# Altium footprint library CONNECTOR.PCBLIB: 232 footprints (part 10 of 15)
Each footprint in its own frame and in the unit in brackets; x right, y up, seen from the top. Pads: shape width x height; smd on the part's side, far side on the other; paste and mask are expansions set on the pad; w line width, h text height; cw(c..) or ccw(c..) is an arc to the next point about the centre after c.
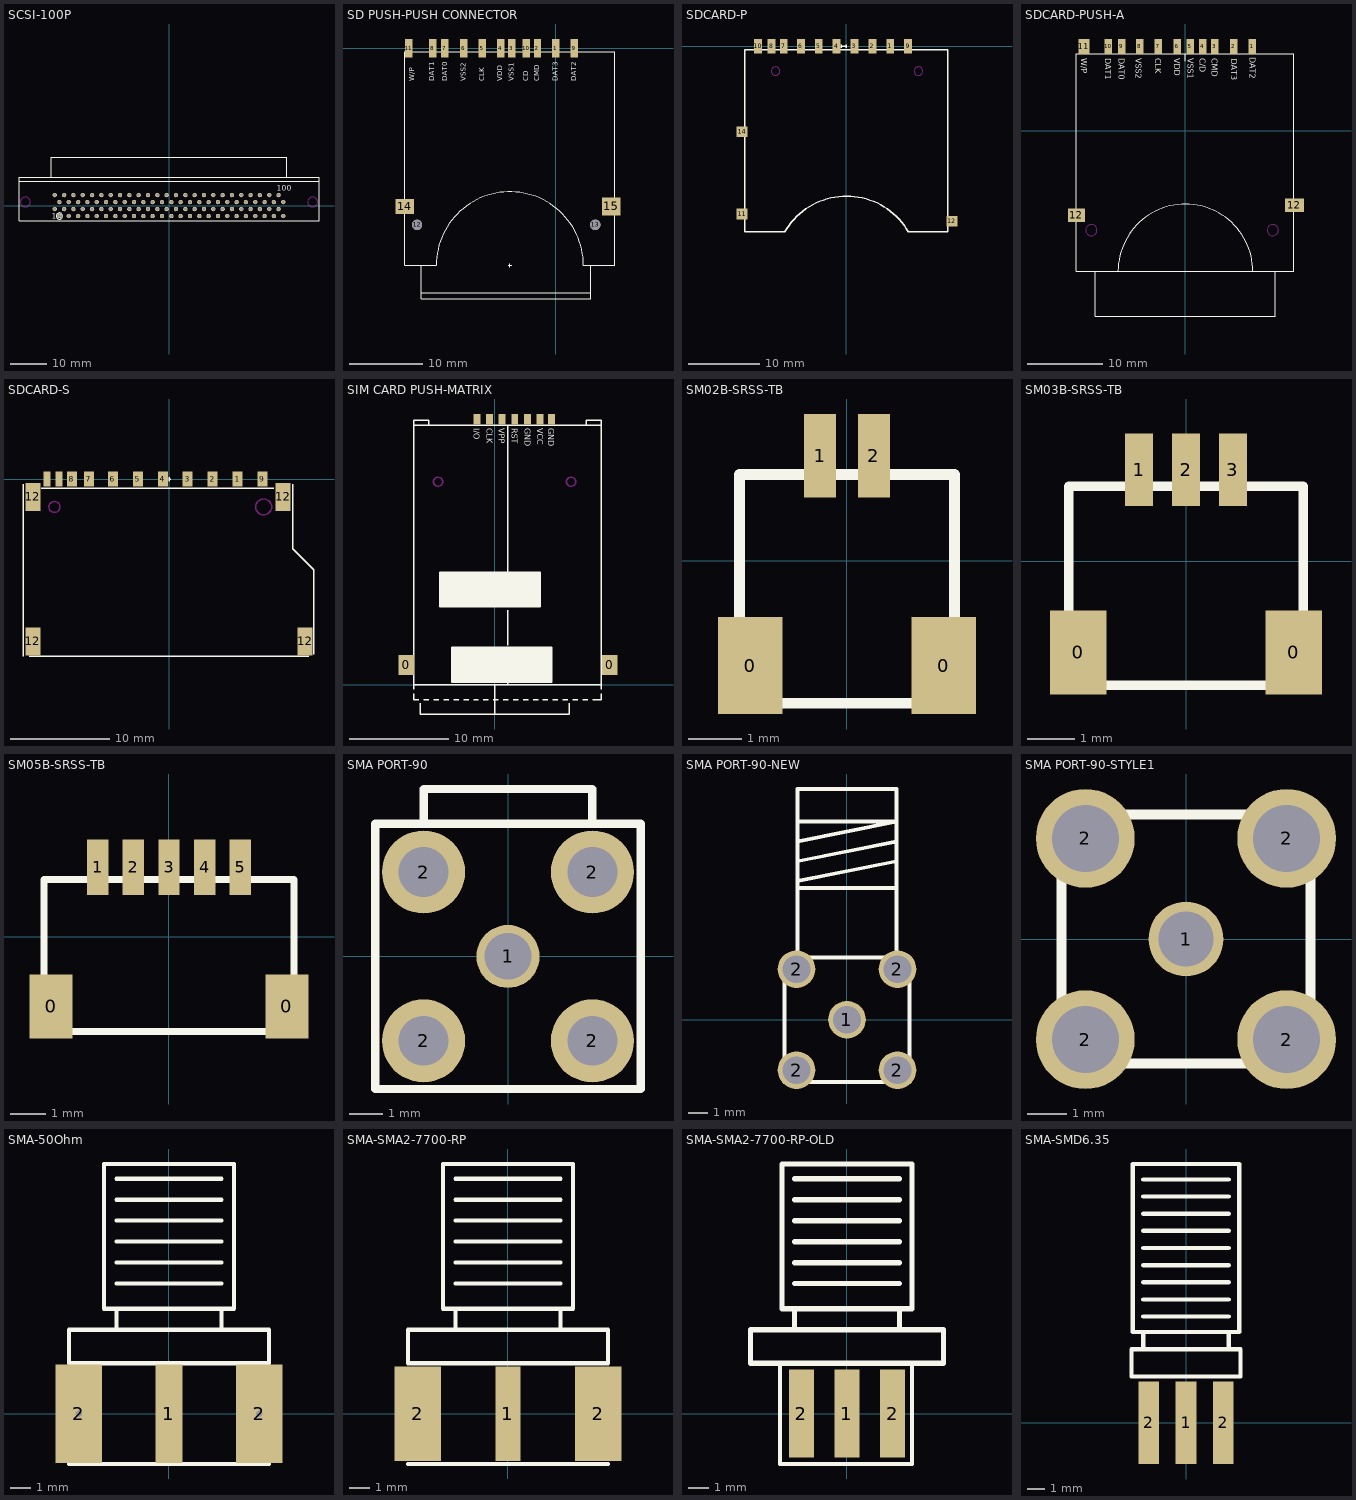
[diagram p9: the footprints below, top view; thin cyan lines are the x and y axes]

## SCSI-100P [mm]
pads (100):
  round 1.2 hole 0.8: 1(-29.845,-2.857) 2(-27.305,-2.857) 3(-24.765,-2.857) 4(-22.225,-2.857) 5(-19.685,-2.857) 6(-17.145,-2.857) 7(-14.605,-2.857) 8(-12.065,-2.857) 9(-9.525,-2.857) 10(-6.985,-2.857) 11(-4.445,-2.857) 12(-1.905,-2.857) 13(0.635,-2.857) 14(3.175,-2.857) 15(5.715,-2.857) 16(8.255,-2.857) 17(10.795,-2.857) 18(13.335,-2.857) 19(15.875,-2.857) 20(18.415,-2.857) 21(20.955,-2.857) 22(23.495,-2.857) 23(26.035,-2.857) 24(28.575,-2.857) 25(31.115,-2.857) 26(-31.115,-0.953) 27(-28.575,-0.953) 28(-26.035,-0.953) 29(-23.495,-0.953) 30(-20.955,-0.953) 31(-18.415,-0.953) 32(-15.875,-0.953) 33(-13.335,-0.953) 34(-10.795,-0.953) 35(-8.255,-0.953) 36(-5.715,-0.953) 37(-3.175,-0.953) 38(-0.635,-0.953) 39(1.905,-0.953) 40(4.445,-0.953) 41(6.985,-0.953) 42(9.525,-0.953) 43(12.065,-0.953) 44(14.605,-0.953) 45(17.145,-0.953) 46(19.685,-0.953) 47(22.225,-0.953) 48(24.765,-0.953) 49(27.305,-0.953) 50(29.845,-0.953) 51(-29.845,0.953) 52(-27.305,0.953) 53(-24.765,0.953) 54(-22.225,0.953) 55(-19.685,0.953) 56(-17.145,0.953) 57(-14.605,0.953) 58(-12.065,0.953) 59(-9.525,0.953) 60(-6.985,0.953) 61(-4.445,0.953) 62(-1.905,0.953) 63(0.635,0.953) 64(3.175,0.953) 65(5.715,0.953) 66(8.255,0.953) 67(10.795,0.953) 68(13.335,0.953) 69(15.875,0.953) 70(18.415,0.953) 71(20.955,0.953) 72(23.495,0.953) 73(26.035,0.953) 74(28.575,0.953) 75(31.115,0.953) 76(-31.115,2.857) 77(-28.575,2.857) 78(-26.035,2.857) 79(-23.495,2.857) 80(-20.955,2.857) 81(-18.415,2.857) 82(-15.875,2.857) 83(-13.335,2.857) 84(-10.795,2.857) 85(-8.255,2.857) 86(-5.715,2.857) 87(-3.175,2.857) 88(-0.635,2.857) 89(1.905,2.857) 90(4.445,2.857) 91(6.985,2.857) 92(9.525,2.857) 93(12.065,2.857) 94(14.605,2.857) 95(17.145,2.857) 96(19.685,2.857) 97(22.225,2.857) 98(24.765,2.857) 99(27.305,2.857) 100(29.845,2.857)
TopOverlay:
  circle w0.2: c-29.845,-2.857 r0.843
  lines w0.2: -32,7.658 -32,13.157 32,13.157 32,7.658 ; -40.85,6.658 -40.85,-4.143 40.85,-4.143 40.85,6.658 ; -40.85,6.658 -40.85,7.658 40.85,7.658 40.85,6.658 ; -40.85,6.658 40.85,6.658
  text "1" at -31.93,-3.6 h1.52
  text "100" at 29.4,4 h1.52
KeepOutLayer:
  circle w0.127: c39.115,0.953 r1.35
  circle w0.127: c-39.115,0.953 r1.35

## SD PUSH-PUSH CONNECTOR [mm]
pads (15):
  rect 1x2.5 smd: 1(0,0) 2(-2.5,0) 3(-6,0) 4(-7.5,0) 5(-10,0) 6(-12.5,0) 7(-15.1,0) 8(-16.7,0) 9(2.5,0) 10(-4,0) 11(-20,0)
  round 1.4 hole 1.4: 12(-18.85,-24) 13(5.35,-24)
  rect 2.5x2 smd: 14(-20.5,-21.5)
  rect 2.5x2.5 smd: 15(7.5,-21.5)
TopOverlay:
  lines w0.127: -18.25,-33.25 -4,-33.25 4.75,-33.25 ; -18.25,-29.5 -18.25,-34 4.75,-34 4.75,-29.5 ; -6.5,-29.5 -6,-29.5 ; -6.25,-29.75 -6.25,-29.5 -6.25,-29.25 ; -20.5,-29.5 -16.25,-29.5 cw(c-6.25,-29.5) 3.75,-29.5 8,-29.5 8,-0.5 -20.5,-0.5 -20.5,-29.5
  text "DAT2" at 2.75,-4.5 h0.7
  text "DAT3" at 0.25,-4.5 h0.7
  text "CMD" at -2.25,-4.5 h0.7
  text "CD" at -3.75,-4.5 h0.7
  text "VSS1" at -5.75,-4.5 h0.7
  text "VDD" at -7.25,-4.5 h0.7
  text "CLK" at -9.75,-4.5 h0.7
  text "VSS2" at -12.25,-4.5 h0.7
  text "DAT0" at -14.75,-4.5 h0.7
  text "DAT1" at -16.5,-4.5 h0.7
  text "W/P" at -19.25,-4.5 h0.7

## SDCARD-P [mm]
pads (13):
  rect 1.1x2 smd: 1(6.15,0) 2(3.65,0) 3(1.15,0) 4(-1.35,0) 5(-3.85,0) 6(-6.35,0) 7(-8.75,0) 8(-10.45,0) 9(8.65,0) 10(-12.35,0)
  rect 1.5x1.5 smd: 11(-14.6,-23.5) 12(14.8,-24.5) 14(-14.6,-12)
TopOverlay:
  lines w0.2: -0.7,-0.2 -0.7,0.2 ; -0.7,0 0,0 ; 0,-0.2 0,0.2 ; -14.2,-26 -8.621,-26 cw(c0.04,-31) 8.7,-26 14.2,-26 14.2,-0.5 -14.2,-0.5 -14.2,-26
KeepOutLayer:
  circle w0.127: c10.1,-3.5 r0.6
  circle w0.127: c-9.9,-3.5 r0.6

## SDCARD-PUSH-A [mm]
pads (13):
  rect 1x2 smd: 1(8.93,11.25) 2(6.43,11.25) 3(3.93,11.25) 4(2.28,11.25) 5(0.63,11.25) 6(-1.07,11.25) 7(-3.6,11.25) 8(-6.07,11.25) 9(-8.5,11.25) 10(-10.3,11.25)
  rect 1.5x2 smd: 11(-13.55,11.25)
  rect 2.3x1.8 smd: 12(-14.55,-11.25)
  rect 2.6x1.8 smd: 12(14.55,-9.95)
TopOverlay:
  lines w0.127: -12,-18.75 -12,-24.75 12,-24.75 12,-18.75 ; -9,-18.75 cw(c0,-18.775) 9,-18.75 ; 0,9.25 0,10.25 ; -14.55,-18.75 14.45,-18.75 14.45,10.25 -14.55,10.25 -14.55,-18.75
  text "W/P" at -13.9,9.7 h0.8
  text "DAT2" at 8.6,9.8 h0.8
  text "DAT3" at 6.1,9.6 h0.8
  text "CMD" at 3.5,9.7 h0.8
  text "C/D" at 1.9,9.7 h0.8
  text "VSS1" at 0.3,9.7 h0.8
  text "VDD" at -1.5,9.7 h0.8
  text "CLK" at -4,9.7 h0.8
  text "VSS2" at -6.6,9.7 h0.8
  text "DAT0" at -8.9,9.7 h0.8
  text "DAT1" at -10.7,9.7 h0.8
KeepOutLayer:
  circle w0.127: c11.65,-13.25 r0.75
  circle w0.127: c-12.55,-13.25 r0.75

## SDCARD-S [mm]
pads (15):
  rect 1x1.5 smd: 1(6.875,0) 2(4.375,0) 3(1.875,0) 4(-0.625,0) 5(-3.125,0) 6(-5.625,0) 7(-8.05,0) 8(-9.75,0) 9(9.375,0)
  rect 0.7x1.5 smd: 10(-11.05,0) 11(-12.25,0)
  rect 1.5x2.8 smd: 12(-13.65,-16.3) 12(-13.65,-1.8) 12(11.45,-1.8) 12(13.65,-16.3)
TopOverlay:
  lines w0.127: -14.6,-17.8 -14.6,-0.5 ; -14,-17.8 14,-17.8 ; -12.8,-0.9 10.5,-0.9 ; 0,-0.2 0,0.2 ; 0,0 0.2,0 ; 12.4,-0.5 12.4,-7 14.5,-9.1 14.5,-17.6
KeepOutLayer:
  circle w0.127: c9.5,-2.8 r0.8
  circle w0.127: c-11.5,-2.8 r0.55

## SIM CARD PUSH-MATRIX [mm]
pads (9):
  rect 1.6x2 smd: 0(-8.92,2) 0(11.58,2)
  rect 0.7x1.05 smd: 1(4.55,26.75) 2(2.01,26.75) 3(-0.53,26.75) 4(3.28,26.75) 5(0.74,26.75) 6(-1.8,26.75) 7(5.7,26.75)
TopOverlay:
  rectangle: -5.53,7.85 4.59,11.35
  rectangle: -4.36,0.25 5.76,3.75
  lines w0.127: -8.145,-0.9 -8.145,-1.5 -7.645,-1.5 ; -8.145,-0.45 -8.145,0 ; -7.5,-1.85 -7.5,-2.95 7.5,-2.95 7.5,-1.85 ; -7.145,-1.5 -6.645,-1.5 ; -6.645,26.15 -6.645,26.65 -8.145,26.65 -8.145,26.15 ; -6.145,-1.5 -5.645,-1.5 ; -5.145,-1.5 -4.645,-1.5 ; -4.145,-1.5 -3.645,-1.5 ; -3.145,-1.5 -2.645,-1.5 ; -2.145,-1.5 -1.645,-1.5 ; -1.145,-1.5 -0.645,-1.5 ; -0.145,-1.5 0.355,-1.5 ; 0,-2.95 0,0 ; 0.855,-1.5 1.355,-1.5 ; 1.28,0 1.28,0.5 ; 1.28,4 1.28,7.5 ; 1.28,11.4 1.28,25.6 1.28,26.15 ; 1.855,-1.5 2.355,-1.5 ; 2.855,-1.5 3.355,-1.5 ; 3.855,-1.5 4.355,-1.5 ; 4.855,-1.5 5.355,-1.5 ; 5.855,-1.5 6.355,-1.5 ; 6.855,-1.5 7.355,-1.5 ; 7.855,-1.5 8.355,-1.5 ; 8.855,-1.5 9.355,-1.5 ; 9.205,26.15 9.205,26.65 10.705,26.65 10.705,26.15 ; 9.855,-1.5 10.705,-1.5 10.705,-0.9 ; 10.705,-0.45 10.705,0 ; -8.145,0 -8.145,26.15 ; -8.145,0 10.705,0 ; -8.145,26.15 10.705,26.15 ; 10.705,0 10.705,26.15 ; -5.53,7.85 -5.53,11.35 4.59,11.35 4.59,7.85 -5.53,7.85 ; -4.36,0.25 5.76,0.25 5.76,3.75 -4.36,3.75 -4.36,0.25
  text "VCC" at 4.3,25.85 h0.6
  text "RST" at 1.7,25.85 h0.6
  text "CLK" at -0.8,25.85 h0.6
  text "GND" at 3,25.85 h0.6
  text "VPP" at 0.4,25.85 h0.6
  text "I/O" at -2.1,25.85 h0.6
  text "GND" at 5.4,25.85 h0.6
KeepOutLayer:
  circle w0.127: c-5.72,20.45 r0.46
  circle w0.127: c7.68,20.45 r0.46

## SM02B-SRSS-TB [mm]
pads (4):
  rect 1.2x1.8 smd: 0(-1.8,-1.95) 0(1.8,-1.95)
  rect 0.6x1.55 smd: 1(-0.5,1.95) 2(0.5,1.95)
TopOverlay:
  lines w0.2: -2,-2.65 -2,1.6 2,1.6 2,-2.65 -2,-2.65

## SM03B-SRSS-TB [mm]
pads (5):
  rect 1.2x1.8 smd: 0(-2.3,-1.95) 0(2.3,-1.95)
  rect 0.6x1.55 smd: 1(-1,1.95) 2(0,1.95) 3(1,1.95)
TopOverlay:
  lines w0.2: -2.5,-2.65 -2.5,1.6 2.5,1.6 2.5,-2.65 -2.5,-2.65

## SM05B-SRSS-TB [mm]
pads (7):
  rect 1.2x1.8 smd: 0(-3.3,-1.95) 0(3.3,-1.95)
  rect 0.6x1.55 smd: 1(-2,1.95) 2(-1,1.95) 3(0,1.95) 4(1,1.95) 5(2,1.95)
TopOverlay:
  lines w0.2: -3.5,-2.65 -3.5,1.6 3.5,1.6 3.5,-2.65 -3.5,-2.65

## SMA PORT-90 [mm]
pads (5):
  round 1.9 hole 1.4: 1(0,0)
  round 2.5 hole 1.5: 2(-2.54,-2.54) 2(-2.54,2.54) 2(2.54,-2.54) 2(2.54,2.54)
TopOverlay:
  lines w0.254: -2.54,4.04 -2.54,5.04 2.54,5.04 2.54,4.035 ; -3.99,-3.99 -3.99,3.99 3.99,3.99 3.99,-3.99 -3.99,-3.99

## SMA PORT-90-NEW [mm] "SMA PORT-90-NEW"
pads (5):
  round 1.9 hole 1.4: 1(0,0) 2(-2.55,-2.55) 2(-2.55,2.55) 2(2.55,-2.55) 2(2.55,2.55)
TopOverlay:
  lines w0.2: -2.5,3.15 -2.5,11.65 2.5,11.65 2.5,3.15 ; -2.5,6.65 2.5,6.65 ; -2.5,7 2.5,8 ; -2.5,8 2.5,9 ; -2.5,9 2.5,10 -2.5,10 ; -3.15,-3.15 -3.15,3.15 3.15,3.15 3.15,-3.15 -3.15,-3.15

## SMA PORT-90-STYLE1 [mm]
pads (5):
  round 1.9 hole 1.4: 1(0,0)
  round 2.5 hole 1.7: 2(-2.55,-2.55) 2(-2.55,2.55) 2(2.55,-2.55) 2(2.55,2.55)
TopOverlay:
  lines w0.254: -3.15,-3.15 -3.15,3.15 3.15,3.15 3.15,-3.15 -3.15,-3.15

## SMA-50Ohm [mm] "SMA-50Ohm"
pads (3):
  rect 1.3x4.7 smd: 1(0,0)
  rect 2.2x4.7 hole 0.3: 2(-4.3,0) 2(4.3,0)
TopOverlay:
  lines w0.2: -4.76,-2.4 4.76,-2.4 ; -2.5,4 -2.5,5 ; -2.5,6.2 2.5,6.2 ; -2.5,7.2 2.5,7.2 ; -2.5,8.2 2.5,8.2 ; -2.5,9.2 2.5,9.2 ; -2.5,10.2 2.5,10.2 ; -2.5,11.2 2.5,11.2 ; 2.5,4 2.5,5 ; -4.76,2.4 -4.76,4 4.76,4 4.76,2.4 -4.76,2.4 ; -3.1,5 3.1,5 3.1,11.9 -3.1,11.9 -3.1,5

## SMA-SMA2-7700-RP [mm]
pads (3):
  rect 1.2x4.5 smd: 1(0,0)
  rect 2.2x4.5 all layers, no hole: 2(-4.3,0) 2(4.3,0)
TopOverlay:
  lines w0.2: -4.76,-2.4 4.76,-2.4 ; -2.5,4 -2.5,5 ; -2.5,6.2 2.5,6.2 ; -2.5,7.2 2.5,7.2 ; -2.5,8.2 2.5,8.2 ; -2.5,9.2 2.5,9.2 ; -2.5,10.2 2.5,10.2 ; -2.5,11.2 2.5,11.2 ; 2.5,4 2.5,5 ; -4.76,2.4 -4.76,4 4.76,4 4.76,2.4 -4.76,2.4 ; -3.1,5 3.1,5 3.1,11.9 -3.1,11.9 -3.1,5

## SMA-SMA2-7700-RP-OLD [mm]
pads (3):
  rect 1.2x4.2 smd: 1(0,0)
  rect 1.2x4.2 all layers, no hole: 2(-2.175,0) 2(2.175,0)
TopOverlay:
  lines w0.2: -3.2,2.4 -3.2,-2.4 3.1,-2.4 3.1,2.4
  lines w0.254: -2.5,4 -2.5,5 ; -2.5,6.2 2.5,6.2 ; -2.5,7.2 2.5,7.2 ; -2.5,8.2 2.5,8.2 ; -2.5,9.2 2.5,9.2 ; -2.5,10.2 2.5,10.2 ; -2.5,11.2 2.5,11.2 ; 2.5,4 2.5,5 ; -4.6,2.4 4.6,2.4 4.6,4 -4.6,4 -4.6,2.4 ; -3.1,5 3.1,5 3.1,11.9 -3.1,11.9 -3.1,5

## SMA-SMD6.35 [mm]
pads (3):
  rect 1.2x4.8 smd: 1(0,0)
  rect 1.2x4.8 all layers, no hole: 2(-2.175,0) 2(2.175,0)
TopOverlay:
  lines w0.254: -2.5,4.3 -2.5,5.3 ; -2.5,6.2 2.5,6.2 ; -2.5,7.2 2.5,7.2 ; -2.5,8.2 2.5,8.2 ; -2.5,9.2 2.5,9.2 ; -2.5,10.2 2.5,10.2 ; -2.5,11.2 2.5,11.2 ; -2.5,12.2 2.5,12.2 ; -2.5,13.2 2.5,13.2 ; -2.5,14.2 2.5,14.2 ; 2.5,4.3 2.5,5.3 ; -3.175,2.7 3.175,2.7 3.175,4.3 -3.175,4.3 -3.175,2.7 ; -3.1,5.3 3.1,5.3 3.1,15.1 -3.1,15.1 -3.1,5.3